# EAGLE library part 505568-0471 (library RescueRunner)
Horizontal
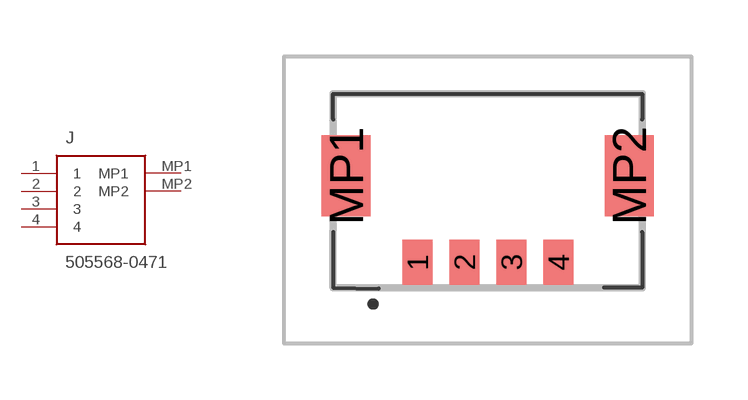
[diagram p1: symbol with the pads of 5055680471; footprint 5055680471]

Designator prefix J

## 505568-0471  [5055680471]
1  1
2  2
3  3
4  4
MP1  MP1
MP2  MP2

## Footprint 5055680471 (pad centres in mm)
505568-0471-1
smd 0.8 x 1.2: 1 -1.865,-1.882; 2 -0.615,-1.882; 3 0.635,-1.882; 4 1.885,-1.882
smd 1.3 x 2.15: MP1 -3.765,0.412; MP2 3.765,0.412